# Altium footprint library Components_2.PcbLib: 22 footprints (part 1 of 2)
Each footprint in its own frame and in the unit in brackets; x right, y up, seen from the top. Pads: shape width x height; smd on the part's side, far side on the other; paste and mask are expansions set on the pad; w line width, h text height; cw(c..) or ccw(c..) is an arc to the next point about the centre after c.
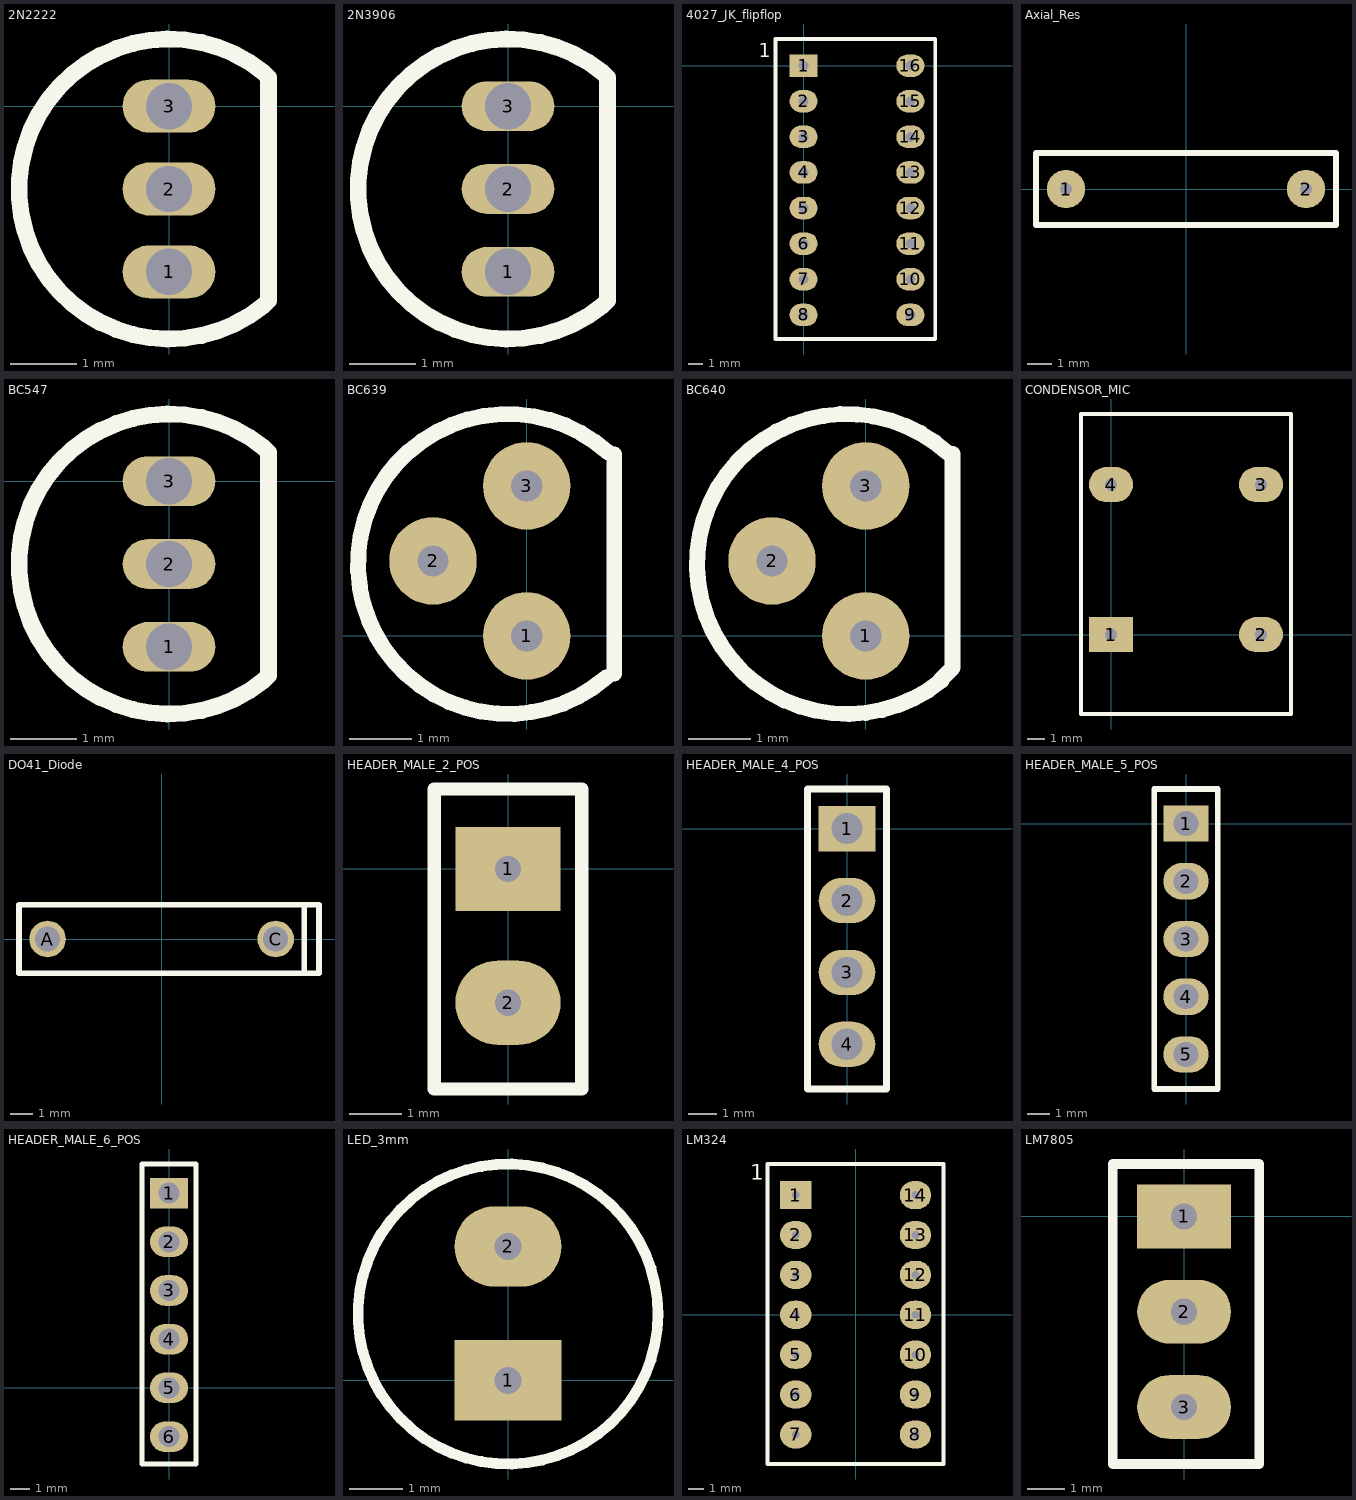
[diagram p0: the footprints below, top view; thin cyan lines are the x and y axes]

## 2N2222 [mm]
pads (3):
  oval 1.4x0.8 hole 0.7: 1(0,-2.5) 2(0,-1.25) 3(0,0)
Top Overlay:
  lines w0.254: 1.425,-3.009 cw(c0,-1.25) 1.425,0.509 1.5,0.434 1.5,0.25 1.5,-2.934 1.425,-3.009
3D body "User Library-P2N2222A Transistors NPN TO-92 (2,54mm).STEP": height 4.82, standoff -14.7, extent -2.13,-3.56 1.5,1.2

## 2N3906 [mm]
pads (3):
  oval 1.4x0.75 hole 0.7: 1(0,-2.5) 2(0,-1.25) 3(0,0)
Top Overlay:
  lines w0.254: 1.425,-3.009 cw(c0,-1.25) 1.425,0.509 1.5,0.434 1.5,0.25 1.5,-2.934 1.425,-3.009
3D body "User Library-2N3906 Transistors PNP TO-92 3L (2,54mm).step": height 5.82, standoff -13.7, extent -2.13,-3.63 1.5,1.13

## 4027_JK_flipflop [mm]
pads (16):
  rect 2x1.6 hole 0.7: 1(0,0)
  oval 2x1.6 hole 0.7: 2(0,-2.54) 3(0,-5.08) 4(0,-7.62) 5(0,-10.16) 6(0,-12.7) 7(0,-15.24) 8(0,-17.78) 9(7.62,-17.78) 10(7.62,-15.24) 11(7.62,-12.7) 12(7.62,-10.16) 13(7.62,-7.62) 14(7.62,-5.08) 15(7.62,-2.54) 16(7.62,0)
Top Overlay:
  lines w0.254: -2,-19.5 9.4,-19.5 9.4,1.9 -2,1.9 -2,-19.5
  text "1" at -3.2,0.6 h1
3D body "CD4027BE.stp": height 8.08, standoff -0.5, extent -0.377,-18.502 7.828,0.803
3D body "16 pin IC socket.SLDPRT": height 5.08, standoff -3.56, extent -1.394,-18.655 8.766,1.665

## Axial_Res [mm]
pads (2):
  round 1.6 hole 0.5: 1(-5,0) 2(5,0)
Top Overlay:
  lines w0.254: -6.25,-1.5 -6.25,1.5 6,1.5 6.25,1.5 6.25,-1.5 -6.25,-1.5
3D body "R10K.STEP": height 3.14, standoff -2.12, extent -5.35,-1.26 5.15,1.26

## BC547 [mm]
pads (3):
  oval 1.4x0.75 hole 0.7: 1(0,-2.5) 2(0,-1.25) 3(0,0)
Top Overlay:
  lines w0.254: 1.425,-3.009 cw(c0,-1.25) 1.425,0.509 1.5,0.434 1.5,0.25 1.5,-2.934 1.425,-3.009
3D body "BC547-B.step": height 4, standoff -8.8, extent -2,-3.24 1.05,0.84

## BC639 [mm]
pads (3):
  round 1.4 hole 0.5: 1(0,0) 2(-1.5,1.2) 3(0,2.4)
Top Overlay:
  lines w0.254: 1.275,-0.661 cw(c-0.3,1.15) 1.306,2.934 ; 1.4,-0.6 1.4,2.9
3D body "User Library-P2N2222A Transistors NPN TO-92 (2,54mm).STEP": height 4.82, standoff -14.7, extent -2.43,-1.16 1.2,3.6

## BC640 [mm]
pads (3):
  round 1.4 hole 0.5: 1(0,0) 2(-1.5,1.2) 3(0,2.4)
Top Overlay:
  lines w0.254: 1.21,-0.715 cw(c-0.3,1.15) 1.306,2.934 ; 1.391,2.909 1.391,-0.509 1.2,-0.7 ; 1.2,-0.7 1.2,-0.7
3D body "User Library-P2N2222A Transistors NPN TO-92 (2,54mm).STEP": height 4.82, standoff -14.7, extent -2.43,-1.16 1.2,3.6

## CONDENSOR_MIC [mm]
pads (4):
  rect 2.5x2 hole 0.7: 1(0,0)
  oval 2.5x2 hole 0.7: 2(8.5,0) 3(8.5,8.5) 4(0,8.5)
Top Overlay:
  lines w0.254: -1.7,-4.5 -1.7,12.5 10.2,12.5 10.2,-4.5 -1.7,-4.5
3D body "User Library-35RASMT4BHNTRX.STEP": height 5.5, standoff -0.5, extent 0,-4.2 9,14.8

## DO41_Diode [mm]
pads (2):
  round 1.6 hole 1.1: A(-5,0) C(5,0)
Top Overlay:
  lines w0.254: 6.25,-1.5 6.9,-1.5 6.9,1.5 6.7,1.5 6.25,1.5 ; 6.25,-1.5 6.25,1.5 ; 6.25,-1.5 -6.25,-1.5 -6.25,1.5 6.25,1.5
3D body "User Library-DO-41 10mm.STEP": height 3.09, standoff -2.27, extent -5.473,-1.362 5.387,1.363

## HEADER_MALE_2_POS [mm]
pads (2):
  rect 2x1.6 hole 0.5: 1(0,0)
  oval 2x1.6 hole 0.5: 2(0,-2.54)
Top Overlay:
  lines w0.254: -1.4,-4.18 -1.4,1.52 1.4,1.52 1.4,-4.18 -1.4,-4.18
3D body "zl201-2_p2-54_l5-08_w2-54_h8-89.stp": height 9.19, standoff -2.75, extent -1.27,-3.81 1.27,1.27

## HEADER_MALE_4_POS [mm]
pads (4):
  rect 2x1.6 hole 1.1: 1(0,0)
  oval 2x1.6 hole 1.1: 2(0,-2.54) 3(0,-5.08) 4(0,-7.62)
Top Overlay:
  lines w0.254: -1.4,-9.2 -1.4,1.4 1.4,1.4 1.4,-9.2 -1.4,-9.2
3D body "User Library-Header_Male_4Pin.STEP": height 8.54, standoff -3, extent -1.26,-8.945 1.23,1.215

## HEADER_MALE_5_POS [mm]
pads (5):
  rect 2x1.6 hole 1.1: 1(0,0)
  oval 2x1.6 hole 1.1: 2(0,-2.54) 3(0,-5.08) 4(0,-7.62) 5(0,-10.16)
Top Overlay:
  lines w0.254: -1.4,-11.68 1.4,-11.68 1.4,1.52 -1.4,1.52 -1.4,-11.68
3D body "zl201-5_p2-54_l12-7_w2-54_h8-89.stp": height 9.19, standoff -2.75, extent -1.24,-11.35 1.3,1.35

## HEADER_MALE_6_POS [mm]
pads (6):
  rect 2x1.6 hole 1.1: 1(0,10.16)
  oval 2x1.6 hole 1.1: 2(0,7.62) 3(0,5.08) 4(0,2.54) 5(0,0) 6(0,-2.55)
Top Overlay:
  lines w0.254: -1.4,-3.975 1.4,-3.975 1.4,11.68 -1.4,11.68 -1.4,-3.975
3D body "User Library-Header_Male_6Pin.STEP": height 8.54, standoff -3, extent -1.27,-3.74 1.22,11.5

## LED_3mm [mm]
pads (2):
  rect 2x1.5 hole 0.5: 1(0,0)
  oval 2x1.5 hole 0.5: 2(0,2.5)
Top Overlay:
  circle w0.2: c0,1.24 r2.8
3D body "User Library-LED-2.STEP": height 6.25, standoff -25.4, extent -2,-0.76 2,2.76

## LM324 [mm]
pads (14):
  rect 2x1.8 / inner rect 2x0 / far side rect 2x1.6 hole 0.5: 1(-3.81,7.62)
  oval 2x1.8 / inner oval 2x0 / far side oval 2x1.6 hole 0.5: 2(-3.81,5.08) 3(-3.81,2.54) 4(-3.81,0) 5(-3.81,-2.54) 6(-3.81,-5.08) 7(-3.81,-7.62) 8(3.81,-7.62) 9(3.81,-5.08) 10(3.81,-2.54) 11(3.81,0) 12(3.81,2.54) 13(3.81,5.08) 14(3.81,7.62)
Top Overlay:
  lines w0.254: -5.6,-9.5 -5.6,9.6 5.6,9.6 5.6,-9.5 -5.6,-9.5
  text "1" at -6.7,8.6 h1
3D body "87x6758_1-2199298-3.stp": height 5, standoff -3.1, extent -5.01,-8.88 4.99,8.9
3D body "User Library-LM324.step": height 8.74, standoff 1.24, extent -4.696,-9.59 4.476,8.83

## LM7805 [mm]
pads (3):
  rect 2.5x1.7 hole 0.7: 1(0,0)
  oval 2.5x1.7 hole 0.7: 2(0,-2.54) 3(0,-5.08)
Top Overlay:
  lines w0.254: -1.9,-6.6 2,-6.6 2,1.4 -1.9,1.4 -1.9,-6.6
3D body "LM7805.STEP": height 27.25, standoff -5.98, extent -1.6,-7.835 3.1,2.835